# EAGLE library part LM2664 (library m_vreg)
LM2664 Switched Capacitor Voltage Converter The LM2664 CMOS charge-pump voltage converter inverts a positive voltage in the range of 1.8 V to 5.5 V to the corresponding negative voltage of −1.8 V to −5.5 V. The device uses two low-cost capacitors to provide up to 40 mA of output current.
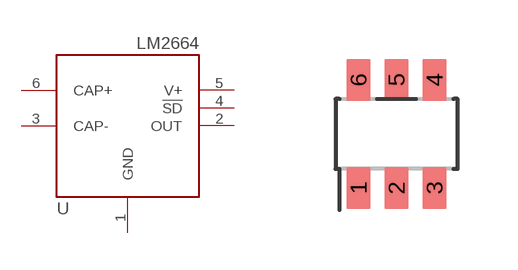
[diagram p15: symbol with the pads of R-PDSO-G6; footprint R-PDSO-G6]

Designator prefix U

## LM2664 (MANUF: TEXAS INSTRUMENTS; PARTNUM: LM2664)  [R-PDSO-G6]
1  GND
2  OUT
3  CAP-
4  !SD
5  V+
6  CAP+

## Footprint R-PDSO-G6 (pad centres in mm)
Plastic Small Outline Package SOT-23 (5) Based on TI drawings 4073253-4/N 12/14, 4209593-3/C 08/11 Note: The datsheet calls for a 0.07" soldermask clearance. Thedatasheet specifies paste stencil openings with 0.025" clearance to edge of copper pad. Polygons were used to preserve edge rounding per IEC standards.
smd 0.6 x 1.05: 1 -0.95,-1.35; 2 0,-1.35; 3 0.95,-1.35; 4 0.95,1.35; 5 0,1.35; 6 -0.95,1.35